# Altium integrated library Actel ProASIC3E.IntLib: 182 symbols (part 37 of 52)
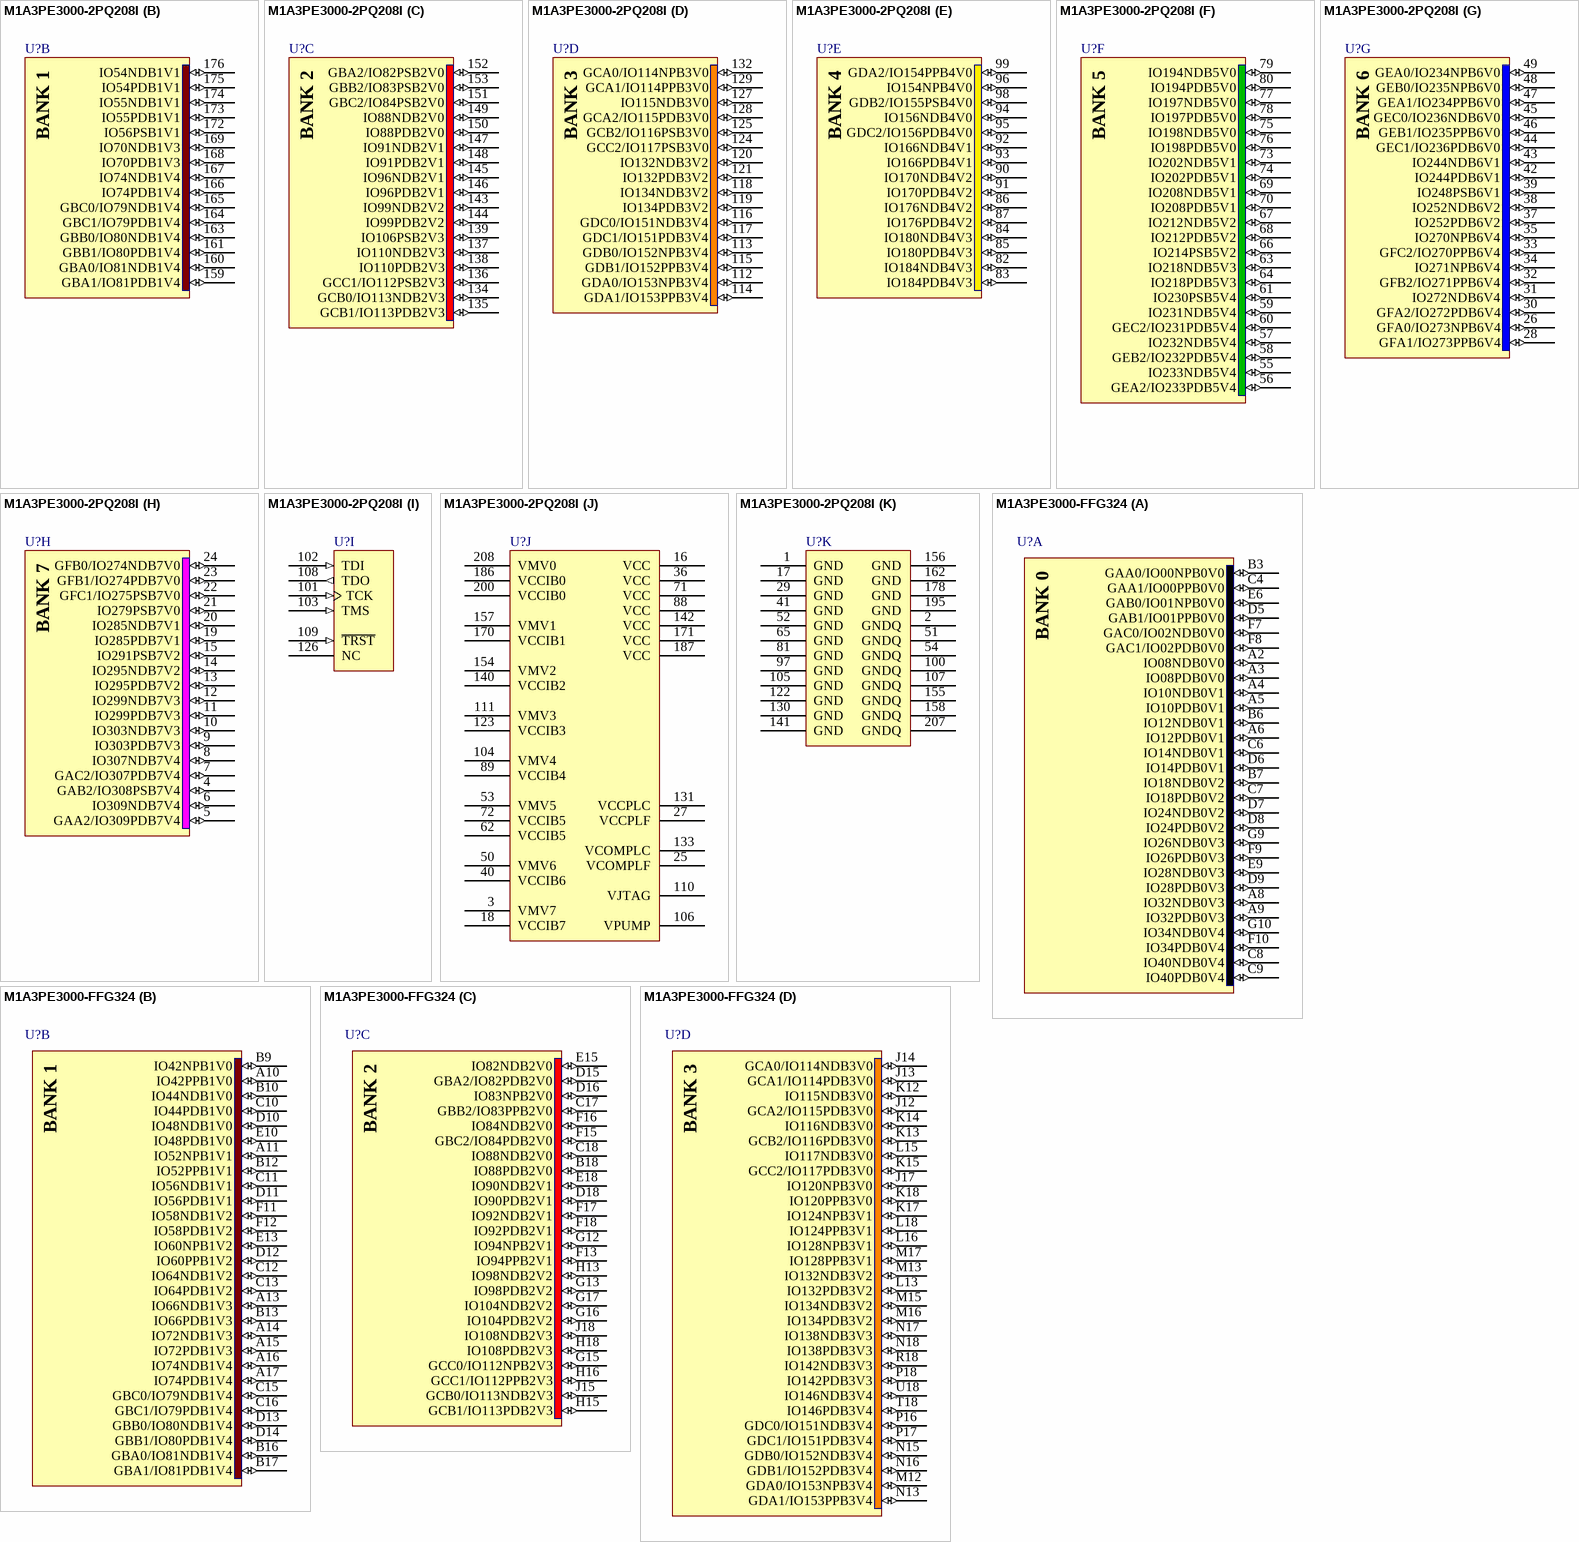
[diagram p336: symbols M1A3PE3000-2PQ208I to M1A3PE3000-FFG324]

## M1A3PE3000-2PQ208I
designator U?
M1-Ready ProASIC3E Flash Family FPGA, 147 User IOs, 3M System Gates, 504 Kbits RAM, 1 Kbit FlashROM, 2 PLLs, 208-Pin PQFP, Industrial Grade; Published: 30-Apr-2009; DatasheetVersion: v1.1, Feb-2009; PackageVersion: ver11.2, Nov-2009; PackageReference: PQ208; Publisher: Altium Limited; PackageDescription: 208-Pin Plastic Quad Flat Pack (PQ208); Code_JEDEC: MS-029-FA-1; ComponentLink1Description: ProASIC3 Datasheet; ComponentLink1URL: http://www.actel.com/documents/PA3E_DS.pdf; ComponentLink2Description: Package Mechanical Drawings; ComponentLink2URL: http://www.actel.com/documents/PckgMechDrwngs.pdf; ComponentLink3Description: ProASIC3 Documents; ComponentLink3URL: http://www.actel.com/products/pa3/docs.aspx; ComponentLink4Description: Actel.com Home; ComponentLink4URL: http://www.actel.com/
footprint PQ208_N (Shrink QFP, 208-Leads, Body 28x28mm, Pitch 0.5mm, IPC Medium Density)
footprint PQ208_L (Shrink QFP, 208-Leads, Body 28x28mm, Pitch 0.5mm, IPC High Density)
footprint PQ208_M (Shrink QFP, 208-Leads, Body 28x28mm, Pitch 0.5mm, IPC Low Density)
signal-integrity model M1A3PE3000_PQ208 (ProASIC3E)
part A pins: 177 IO40PDB0V4 (io), 179 IO40NDB0V4 (io), 180 IO37PDB0V4 (io), 181 IO37NDB0V4 (io), 182 IO35PDB0V4 (io), 183 IO35NDB0V4 (io), 184 IO32PDB0V3 (io), 185 IO32NDB0V3 (io), 188 IO28PDB0V3 (io), 189 IO28NDB0V3 (io), 190 IO24PDB0V2 (io), 191 IO24NDB0V2 (io), 192 IO21PSB0V2 (io), 193 IO16PDB0V1 (io), 194 IO16NDB0V1 (io), 196 IO11PDB0V1 (io), 197 IO11NDB0V1 (io), 198 IO08PDB0V0 (io), 199 IO08NDB0V0 (io), 201 GAC1/IO02PDB0V0 (io), 202 GAC0/IO02NDB0V0 (io), 203 GAB1/IO01PDB0V0 (io), 204 GAB0/IO01NDB0V0 (io), 205 GAA1/IO00PDB0V0 (io), 206 GAA0/IO00NDB0V0 (io)
part B pins: 159 GBA1/IO81PDB1V4 (io), 160 GBA0/IO81NDB1V4 (io), 161 GBB1/IO80PDB1V4 (io), 163 GBB0/IO80NDB1V4 (io), 164 GBC1/IO79PDB1V4 (io), 165 GBC0/IO79NDB1V4 (io), 166 IO74PDB1V4 (io), 167 IO74NDB1V4 (io), 168 IO70PDB1V3 (io), 169 IO70NDB1V3 (io), 172 IO56PSB1V1 (io), 173 IO55PDB1V1 (io), 174 IO55NDB1V1 (io), 175 IO54PDB1V1 (io), 176 IO54NDB1V1 (io)
part C pins: 134 GCB0/IO113NDB2V3 (io), 135 GCB1/IO113PDB2V3 (io), 136 GCC1/IO112PSB2V3 (io), 137 IO110NDB2V3 (io), 138 IO110PDB2V3 (io), 139 IO106PSB2V3 (io), 143 IO99NDB2V2 (io), 144 IO99PDB2V2 (io), 145 IO96NDB2V1 (io), 146 IO96PDB2V1 (io), 147 IO91NDB2V1 (io), 148 IO91PDB2V1 (io), 149 IO88NDB2V0 (io), 150 IO88PDB2V0 (io), 151 GBC2/IO84PSB2V0 (io), 152 GBA2/IO82PSB2V0 (io), 153 GBB2/IO83PSB2V0 (io)
part D pins: 112 GDA0/IO153NPB3V4 (io), 113 GDB0/IO152NPB3V4 (io), 114 GDA1/IO153PPB3V4 (io), 115 GDB1/IO152PPB3V4 (io), 116 GDC0/IO151NDB3V4 (io), 117 GDC1/IO151PDB3V4 (io), 118 IO134NDB3V2 (io), 119 IO134PDB3V2 (io), 120 IO132NDB3V2 (io), 121 IO132PDB3V2 (io), 124 GCC2/IO117PSB3V0 (io), 125 GCB2/IO116PSB3V0 (io), 127 IO115NDB3V0 (io), 128 GCA2/IO115PDB3V0 (io), 129 GCA1/IO114PPB3V0 (io), 132 GCA0/IO114NPB3V0 (io)
part E pins: 82 IO184NDB4V3 (io), 83 IO184PDB4V3 (io), 84 IO180NDB4V3 (io), 85 IO180PDB4V3 (io), 86 IO176NDB4V2 (io), 87 IO176PDB4V2 (io), 90 IO170NDB4V2 (io), 91 IO170PDB4V2 (io), 92 IO166NDB4V1 (io), 93 IO166PDB4V1 (io), 94 IO156NDB4V0 (io), 95 GDC2/IO156PDB4V0 (io), 96 IO154NPB4V0 (io), 98 GDB2/IO155PSB4V0 (io), 99 GDA2/IO154PPB4V0 (io)
part F pins: 55 IO233NDB5V4 (io), 56 GEA2/IO233PDB5V4 (io), 57 IO232NDB5V4 (io), 58 GEB2/IO232PDB5V4 (io), 59 IO231NDB5V4 (io), 60 GEC2/IO231PDB5V4 (io), 61 IO230PSB5V4 (io), 63 IO218NDB5V3 (io), 64 IO218PDB5V3 (io), 66 IO214PSB5V2 (io), 67 IO212NDB5V2 (io), 68 IO212PDB5V2 (io), 69 IO208NDB5V1 (io), 70 IO208PDB5V1 (io), 73 IO202NDB5V1 (io), 74 IO202PDB5V1 (io), 75 IO198NDB5V0 (io), 76 IO198PDB5V0 (io), 77 IO197NDB5V0 (io), 78 IO197PDB5V0 (io), 79 IO194NDB5V0 (io), 80 IO194PDB5V0 (io)
part G pins: 26 GFA0/IO273NPB6V4 (io), 28 GFA1/IO273PPB6V4 (io), 30 GFA2/IO272PDB6V4 (io), 31 IO272NDB6V4 (io), 32 GFB2/IO271PPB6V4 (io), 33 GFC2/IO270PPB6V4 (io), 34 IO271NPB6V4 (io), 35 IO270NPB6V4 (io), 37 IO252PDB6V2 (io), 38 IO252NDB6V2 (io), 39 IO248PSB6V1 (io), 42 IO244PDB6V1 (io), 43 IO244NDB6V1 (io), 44 GEC1/IO236PDB6V0 (io), 45 GEC0/IO236NDB6V0 (io), 46 GEB1/IO235PPB6V0 (io), 47 GEA1/IO234PPB6V0 (io), 48 GEB0/IO235NPB6V0 (io), 49 GEA0/IO234NPB6V0 (io)
part H pins: 4 GAB2/IO308PSB7V4 (io), 5 GAA2/IO309PDB7V4 (io), 6 IO309NDB7V4 (io), 7 GAC2/IO307PDB7V4 (io), 8 IO307NDB7V4 (io), 9 IO303PDB7V3 (io), 10 IO303NDB7V3 (io), 11 IO299PDB7V3 (io), 12 IO299NDB7V3 (io), 13 IO295PDB7V2 (io), 14 IO295NDB7V2 (io), 15 IO291PSB7V2 (io), 19 IO285PDB7V1 (io), 20 IO285NDB7V1 (io), 21 IO279PSB7V0 (io), 22 GFC1/IO275PSB7V0 (io), 23 GFB1/IO274PDB7V0 (io), 24 GFB0/IO274NDB7V0 (io)
part I pins: 101 TCK (in), 102 TDI (in), 103 TMS (in), 108 TDO (out), 109 ~{TRST} (in), 126 NC
part J pins: 3 VMV7 (power), 16 VCC (power), 18 VCCIB7 (power), 25 VCOMPLF (power), 27 VCCPLF (power), 36 VCC (power), 40 VCCIB6 (power), 50 VMV6 (power), 53 VMV5 (power), 62 VCCIB5 (power), 71 VCC (power), 72 VCCIB5 (power), 88 VCC (power), 89 VCCIB4 (power), 104 VMV4 (power), 106 VPUMP (power), 110 VJTAG (power), 111 VMV3 (power), 123 VCCIB3 (power), 131 VCCPLC (power), 133 VCOMPLC (power), 140 VCCIB2 (power), 142 VCC (power), 154 VMV2 (power), 157 VMV1 (power), 170 VCCIB1 (power), 171 VCC (power), 186 VCCIB0 (power), 187 VCC (power), 200 VCCIB0 (power), 208 VMV0 (power)
part K pins: 1 GND (power), 2 GNDQ (power), 17 GND (power), 29 GND (power), 41 GND (power), 51 GNDQ (power), 52 GND (power), 54 GNDQ (power), 65 GND (power), 81 GND (power), 97 GND (power), 100 GNDQ (power), 105 GND (power), 107 GNDQ (power), 122 GND (power), 130 GND (power), 141 GND (power), 155 GNDQ (power), 156 GND (power), 158 GNDQ (power), 162 GND (power), 178 GND (power), 195 GND (power), 207 GNDQ (power)
part A text: BANK 0
part B text: BANK 1
part C text: BANK 2
part D text: BANK 3
part E text: BANK 4
part F text: BANK 5
part G text: BANK 6
part H text: BANK 7

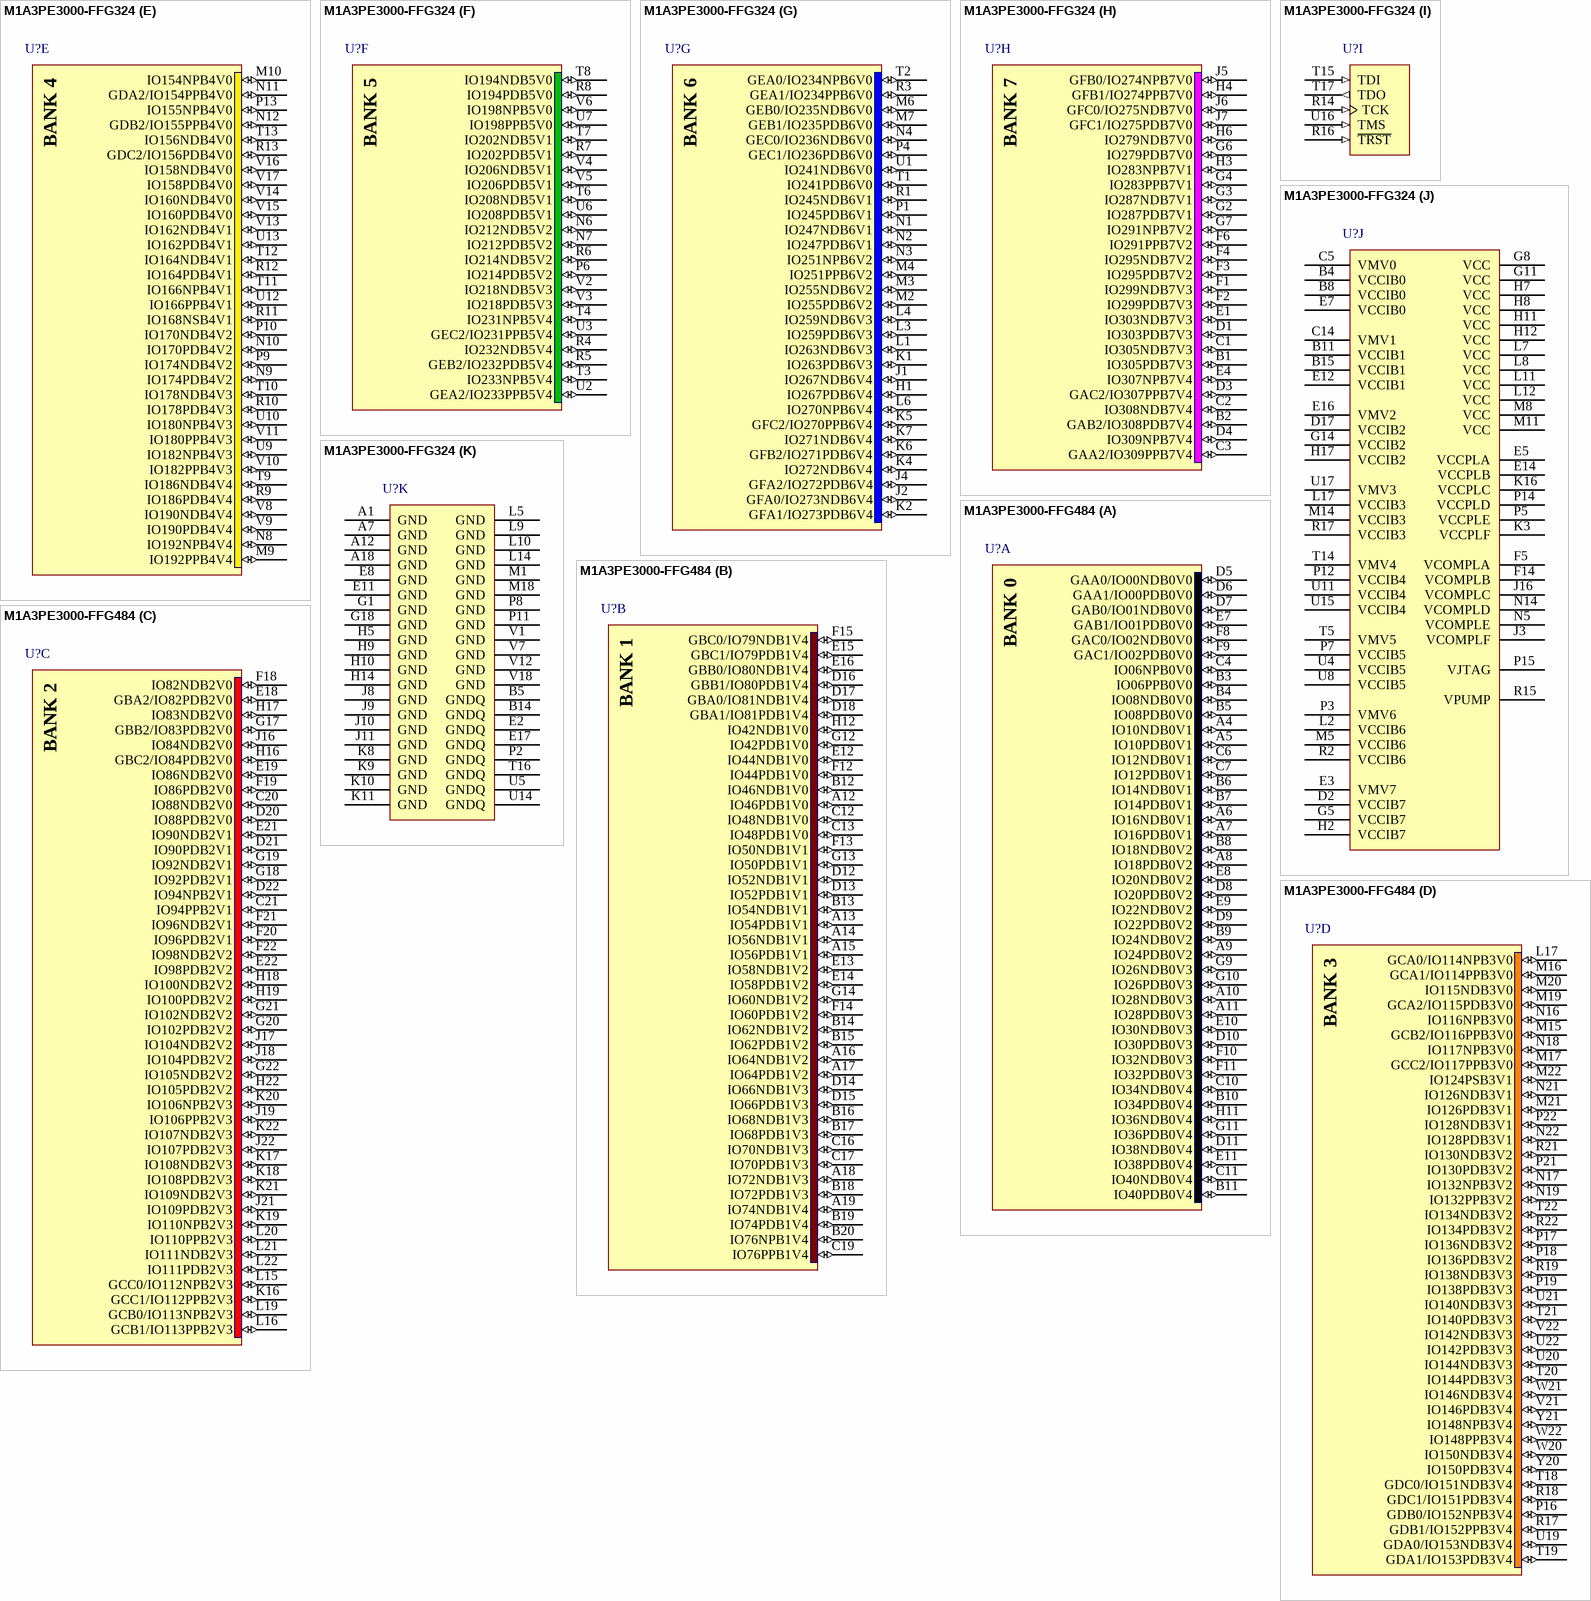
[diagram p128: symbols M1A3PE3000-FFG324 to M1A3PE3000-FFG484]